# Altium schematic symbol library UAV.SchLib: 42 symbols (part 1 of 4)
Pins are listed as number, name and electrical type; pins without a type are passive.

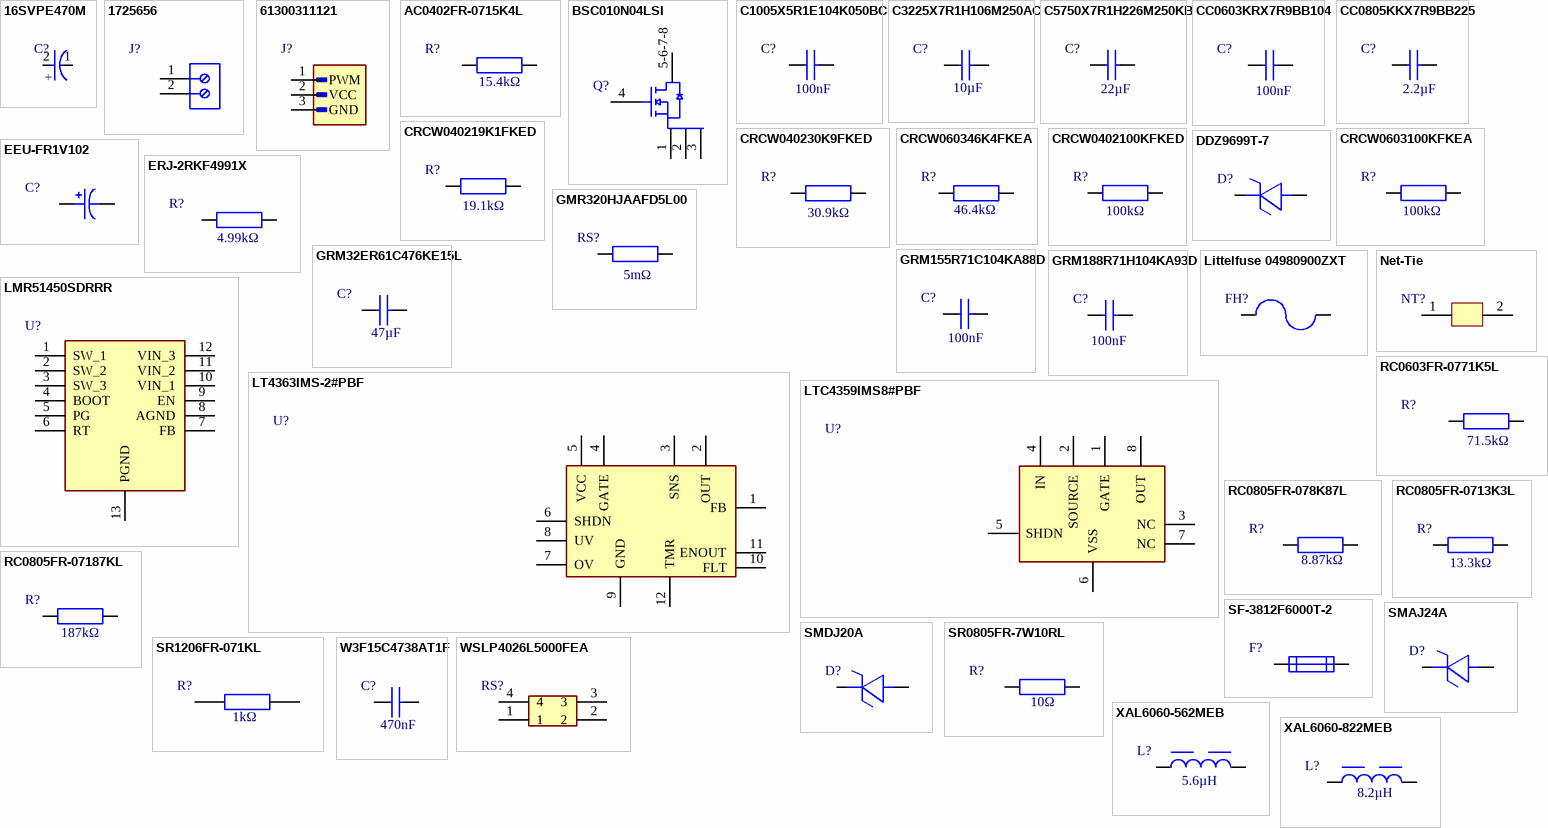
[diagram p0: symbols 16SVPE470M to XAL6060-822MEB]

## 16SVPE470M
designator C?  (value not drawn)
Cap Aluminum Polymer 470uF 16VDC 20%( 10 X 12.6mm) SMD 0.01 Ohm 6.1mA 2000h 105C T/R; Manufacturer: Panasonic; Manufacturer Lifecycle Status: ACTIVE; Part Series: SVPE; Value: 470µF; Dissipation Factor: 12%; ESR (Equivalent Series Resistance): 9mΩ; Leakage Current: 1.504mA; Life (Hours): 2000hours; Polarity: Polar; Ripple Current: 305mA; Ripple Current (AC): 6.1A; Voltage: 16V; Supplier: Farnell; Supplier Part Number: 16SVPE470M; Manufacturer Part Number: 16SVPE470M; RoHS: Compliant; Category: Aluminum Electrolytic Capacitors; Stock: 26; Pricing: 1=2,55, 10=2,01, 50=1,57, 100=1,47, 200=1,37 (EUR); Case/Package: Radial; Country of Origin: Japan; Diameter: 10mm; Export Control Classification Number (ECCN) Code: EAR99; Height: 12.6mm; Height - Seated (Max): 12.7mm; Harmonized Tariff Schedule (HTS) Code: 8532.22.00.20; Introduction Date: 2009-07-25; Lead Free: Lead Free; Length: 10.3mm; Lifecycle Status: Production; Material: Polymer; Max Operating Temperature: 105°C; Min Operating Temperature: -55°C; Mounting Technology: Surface Mount; Pins: 12; Number of Terminals: 2; Packaging: Cut Tape; Radiation Hardening: No; REACH SVHC: Yes; Schedule B: 8532220020, 8532220020|8532220020, 8532220020|8532220020|8532220020, 8532220020|8532220020|8532220020|8532220020; Termination: SMD/SMT; Tolerance: 20%; Voltage Rating: 16V; Voltage Rating (DC): 16V; Width: 10.3mm; ComponentLink1URL: https://datasheet.octopart.com:443/16SVPE470M-Panasonic-datasheet-182100644.pdf?src-supplier=IHS; ComponentLink1Description: https://datasheet.octopart.com:443/16SVPE470M-Panasonic-datasheet-182100644.pdf?src-supplier=IHS; ComponentLink2URL: https://datasheet.octopart.com:443/16SVPE470M-Sanyo-datasheet-182101939.pdf?src-supplier=IHS; ComponentLink2Description: https://datasheet.octopart.com:443/16SVPE470M-Sanyo-datasheet-182101939.pdf?src-supplier=IHS; ComponentLink3URL: https://datasheet.octopart.com:443/16SVPE470M-Panasonic-datasheet-62065353.pdf?src-supplier=element14+APAC; ComponentLink3Description: https://datasheet.octopart.com:443/16SVPE470M-Panasonic-datasheet-62065353.pdf?src-supplier=element14+APAC; ComponentLink4URL: https://sigma.octopart.com:443/138897373/technical_drawing/Panasonic-16SVPE470M.pdf?src-supplier=Upverter; ComponentLink4Description: https://sigma.octopart.com:443/138897373/technical_drawing/Panasonic-16SVPE470M.pdf?src-supplier=Upverter; ComponentLink5URL: https://datasheet.octopart.com:443/16SVPE470M-Panasonic-datasheet-138704361.pdf?src-supplier=Master+Electronics; ComponentLink5Description: https://datasheet.octopart.com:443/16SVPE470M-Panasonic-datasheet-138704361.pdf?src-supplier=Master+Electronics; ComponentLink6URL: https://datasheet.octopart.com:443/16SVPE470M-Panasonic-datasheet-17932125.pdf?src-supplier=Newark; ComponentLink6Description: https://datasheet.octopart.com:443/16SVPE470M-Panasonic-datasheet-17932125.pdf?src-supplier=Newark; ComponentLink7URL: https://datasheet.octopart.com:443/16SVPE470M-Panasonic-datasheet-41466106.pdf?src-supplier=Future+Electronics; ComponentLink7Description: https://datasheet.octopart.com:443/16SVPE470M-Panasonic-datasheet-41466106.pdf?src-supplier=Future+Electronics; ComponentLink8URL: https://sigma.octopart.com:443/150570690/technical_drawing/Panasonic-16SVPE470M.pdf?src-supplier=Panasonic+SCT; ComponentLink8Description: https://sigma.octopart.com:443/150570690/technical_drawing/Panasonic-16SVPE470M.pdf?src-supplier=Panasonic+SCT; ComponentLink9URL: https://datasheet.octopart.com:443/16SVPE470M-Panasonic-datasheet-17853225.pdf?src-supplier=Farnell; ComponentLink9Description: https://datasheet.octopart.com:443/16SVPE470M-Panasonic-datasheet-17853225.pdf?src-supplier=Farnell; ComponentLink10URL: https://datasheet.octopart.com:443/16SVPE470M-Panasonic-datasheet-23711705.pdf?src-supplier=Electro+Sonic; ComponentLink10Description: https://datasheet.octopart.com:443/16SVPE470M-Panasonic-datasheet-23711705.pdf?src-supplier=Electro+Sonic
footprint 16SVPE470M
pins: 1 C, 2 A
text: +

## 1725656
designator J?  (value not drawn)
Block, Terminal; 6 A; 63 V; 2.54 mm; 26 to 20 AWG; 2; Screw; Soldering; 1.5 kV; Manufacturer: Phoenix Contact; Approvals: CSA, UL, VDE, cUL; Connector Type: PCB, Screw, Terminal Block; Current: 6A; Max Supply Voltage: 63V; Number of Circuits: 2; Number of Levels: 1; Pitch: 2.54mm; Stripping Length: 4.5mm; Voltage: 125V; Voltage Rating: 160V; Wire/Cable Gauge: 20AWG; Wire Gauge (Max): 26AWG; Supplier: Arrow Electronics; Supplier Part Number: 1725656; Manufacturer Part Number: 1725656; RoHS: Compliant; Category: Terminal Blocks; Stock: 13040; Pricing: 1=1,249, 251=1,214 (USD); China RoHS: Compliant; Color: Green; Contact Material: Tin; Current Rating: 6A; Depth: 6.2mm; Flammability Rating: UL94 V-0; Height: 6.2mm; Housing Color: Green; Insulation Material: Nylon; Lead Free: Lead Free; Lead Pitch: 2.54mm; Lifecycle Status: Production; Max Current Rating: 6A; Mounting Technology: Screw; Number of Contacts: 2; Pins: 2; Number of Poles: 2; Number of Positions: 2; Number of Positions Per Level: 2; Number of Rows: 1; Radiation Hardening: No; REACH SVHC: Yes; Termination: Solder; Voltage Rating (AC): 63V; Weight: 639.990485mg; Width: 12mm; Wire Gauge (Min): 20AWG; ComponentLink1URL: https://datasheet.octopart.com:443/1725656-Phoenix-Contact-datasheet-141439143.pdf?src-supplier=Upverter; ComponentLink1Description: https://datasheet.octopart.com:443/1725656-Phoenix-Contact-datasheet-141439143.pdf?src-supplier=Upverter; ComponentLink2URL: https://datasheet.octopart.com:443/1725656-Phoenix-Contact-datasheet-101586919.pdf?src-supplier=element14+APAC; ComponentLink2Description: https://datasheet.octopart.com:443/1725656-Phoenix-Contact-datasheet-101586919.pdf?src-supplier=element14+APAC; ComponentLink3URL: https://datasheet.octopart.com:443/1725656-Phoenix-Contact-datasheet-5302866.pdf?src-supplier=element14+APAC; ComponentLink3Description: https://datasheet.octopart.com:443/1725656-Phoenix-Contact-datasheet-5302866.pdf?src-supplier=element14+APAC; ComponentLink4URL: https://datasheet.octopart.com:443/1725656-Phoenix-Contact-datasheet-66629008.pdf?src-supplier=element14+APAC; ComponentLink4Description: https://datasheet.octopart.com:443/1725656-Phoenix-Contact-datasheet-66629008.pdf?src-supplier=element14+APAC; ComponentLink5URL: https://datasheet.octopart.com:443/1725656-Phoenix-Contact-datasheet-170281659.pdf?src-supplier=Master+Electronics; ComponentLink5Description: https://datasheet.octopart.com:443/1725656-Phoenix-Contact-datasheet-170281659.pdf?src-supplier=Master+Electronics; ComponentLink6URL: https://datasheet.octopart.com:443/1725656-Phoenix-Contact-datasheet-154778688.pdf?src-supplier=Electro+Sonic; ComponentLink6Description: https://datasheet.octopart.com:443/1725656-Phoenix-Contact-datasheet-154778688.pdf?src-supplier=Electro+Sonic; ComponentLink7URL: https://datasheet.octopart.com:443/1725656-Phoenix-Contact-datasheet-525036.pdf?src-supplier=Newark; ComponentLink7Description: https://datasheet.octopart.com:443/1725656-Phoenix-Contact-datasheet-525036.pdf?src-supplier=Newark; ComponentLink8URL: https://datasheet.octopart.com:443/1725656-Phoenix-Contact-datasheet-169855803.pdf?src-supplier=Amar+Radio+Corporation; ComponentLink8Description: https://datasheet.octopart.com:443/1725656-Phoenix-Contact-datasheet-169855803.pdf?src-supplier=Amar+Radio+Corporation; ComponentLink9URL: https://datasheet.octopart.com:443/1725656-Phoenix-Contact-datasheet-164874127.pdf?src-supplier=Burklin+Elektronik; ComponentLink9Description: https://datasheet.octopart.com:443/1725656-Phoenix-Contact-datasheet-164874127.pdf?src-supplier=Burklin+Elektronik; ComponentLink10URL: https://datasheet.octopart.com:443/1725656-Phoenix-Contact-datasheet-62053918.pdf?src-supplier=TME; ComponentLink10Description: https://datasheet.octopart.com:443/1725656-Phoenix-Contact-datasheet-62053918.pdf?src-supplier=TME; ComponentLink11URL: https://datasheet.octopart.com:443/1725656-Phoenix-Contact-datasheet-11891466.pdf?src-supplier=Arrow+Electronics; ComponentLink11Description: https://datasheet.octopart.com:443/1725656-Phoenix-Contact-datasheet-11891466.pdf?src-supplier=Arrow+Electronics; ComponentLink12URL: https://datasheet.octopart.com:443/1725656-Phoenix-Contact-datasheet-33456951.pdf?src-supplier=MRO+Stop; ComponentLink12Description: https://datasheet.octopart.com:443/1725656-Phoenix-Contact-datasheet-33456951.pdf?src-supplier=MRO+Stop; ComponentLink13URL: https://datasheet.octopart.com:443/1725656-Phoenix-Contact-datasheet-62122436.pdf?src-supplier=RS+(Formerly+Allied+Electronics); ComponentLink13Description: https://datasheet.octopart.com:443/1725656-Phoenix-Contact-datasheet-62122436.pdf?src-supplier=RS+(Formerly+Allied+Electronics); ComponentLink14URL: https://datasheet.octopart.com:443/1725656-Phoenix-Contact-datasheet-9781713.pdf?src-supplier=RS+(Formerly+Allied+Electronics); ComponentLink14Description: https://datasheet.octopart.com:443/1725656-Phoenix-Contact-datasheet-9781713.pdf?src-supplier=RS+(Formerly+Allied+Electronics); ComponentLink15URL: https://datasheet.octopart.com:443/1725656-Phoenix-Contact-datasheet-84491.pdf?src-supplier=RS+(Formerly+Allied+Electronics); ComponentLink15Description: https://datasheet.octopart.com:443/1725656-Phoenix-Contact-datasheet-84491.pdf?src-supplier=RS+(Formerly+Allied+Electronics); ComponentLink16URL: https://datasheet.octopart.com:443/1725656-Phoenix-Contact-datasheet-657280.pdf?src-supplier=Farnell; ComponentLink16Description: https://datasheet.octopart.com:443/1725656-Phoenix-Contact-datasheet-657280.pdf?src-supplier=Farnell; ComponentLink17URL: https://datasheet.octopart.com:443/1725656-Phoenix-Contact-datasheet-97278.pdf?src-supplier=DigiKey; ComponentLink17Description: https://datasheet.octopart.com:443/1725656-Phoenix-Contact-datasheet-97278.pdf?src-supplier=DigiKey
footprint 1725656
pins: 1 VCC, 2 GND

## 61300311121
designator J?  (value not drawn)
WR-PHD Straight Male, PCB Header, Through Hole, 1 Rows, 3 Contacts, 2.54mm Pitch; Manufacturer: Wurth Elektronik; Manufacturer Lifecycle Status: ACTIVE; Connector Type: Male Pin; Contact Resistance: 20mΩ; Current Rating: 3A; Insulation Resistance: 1GΩ; Number of Contacts: 3; Operating Supply Voltage: 250V; YEOL: 1 = Estimated lifetime > 10 years; Supplier: Farnell; Supplier Part Number: 61300311121; Manufacturer Part Number: 61300311121; RoHS: Compliant; Category: Headers and Wire Housings; Stock: 49425; Pricing: 100=0,0751, 500=0,0705, 1000=0,0659, 2500=0,0646 (EUR); Color: Black; Contact Material: Gold; Contact Mating Length: 5.9944mm; Contact Plating: Gold; Gender: Male; Height: 8.94mm; Lead Free: Lead Free; Lead Pitch: 2.54mm; Length: 7.62mm; Lifecycle Status: Production; Max Operating Temperature: 105°C; Min Operating Temperature: -40°C; Mounting Technology: Through Hole; Pins: 3; Number of Positions: 3; Number of Rows: 1; Orientation: Vertical; Packaging: Bulk; Pitch: 2.54mm; Termination: Solder; Voltage Rating: 250V; ComponentLink1URL: https://datasheet.octopart.com:443/61300311121-Wurth-Elektronik-datasheet-168684096.pdf?src-supplier=Wurth+Elektronik; ComponentLink1Description: https://datasheet.octopart.com:443/61300311121-Wurth-Elektronik-datasheet-168684096.pdf?src-supplier=Wurth+Elektronik; ComponentLink2URL: https://datasheet.octopart.com:443/61300311121-W%C3%BCrth-Elektronik-datasheet-44382959.pdf?src-supplier=Future+Electronics; ComponentLink2Description: https://datasheet.octopart.com:443/61300311121-W%C3%BCrth-Elektronik-datasheet-44382959.pdf?src-supplier=Future+Electronics; ComponentLink3URL: https://datasheet.octopart.com:443/61300311121-W%C3%BCrth-Elektronik-datasheet-149524047.pdf?src-supplier=Farnell; ComponentLink3Description: https://datasheet.octopart.com:443/61300311121-W%C3%BCrth-Elektronik-datasheet-149524047.pdf?src-supplier=Farnell; ComponentLink4URL: https://datasheet.octopart.com:443/61300311121-W%C3%BCrth-Elektronik-datasheet-21154836.pdf?src-supplier=element14+APAC; ComponentLink4Description: https://datasheet.octopart.com:443/61300311121-W%C3%BCrth-Elektronik-datasheet-21154836.pdf?src-supplier=element14+APAC; ComponentLink5URL: https://datasheet.octopart.com/613-003-111-21-W%C3%BCrth-Elektronik-datasheet-134615323.pdf; ComponentLink5Description: https://datasheet.octopart.com/613-003-111-21-W%C3%BCrth-Elektronik-datasheet-134615323.pdf
footprint 1X3 MALE HEADER
pins: 1 PWM, 2 VCC, 3 GND

## AC0402FR-0715K4L
designator R?  value 15.4kΩ  (hidden comment: AC0402FR-0715K4L)
Res Thick Film 0402 15.4K Ohm 1% 0.063W(1/16W) ±100ppm/C Pad SMD Automotive T/R; Manufacturer: Yageo Group; Max Power Dissipation: 63mW; Power Rating: 62.5mW; Temperature Coefficient: 100ppm/°C; Voltage Rating: 50V; Supplier: Farnell; Supplier Part Number: AC0402FR-0715K4L.; Manufacturer Part Number: AC0402FR-0715K4L; RoHS: Compliant; Category: Chip SMD Resistors; Stock: 19685; Pricing: 1=0,0038 (EUR); Case/Package: 0402; Case Code (Imperial): 0402; Case Code (Metric): 1005; China RoHS: Non-Compliant; Composition: Thick Film; Features: Automotive AEC-Q200, Moisture Resistant; Height: 320µm; Length: 1mm; Lifecycle Status: Production; Max Operating Temperature: 155°C; Min Operating Temperature: -55°C; Mounting Technology: Surface Mount; Number of Terminals: 2; Number of Terminations: 2; Packaging: Tape & Reel; Ratings: AEC-Q200; REACH SVHC: Yes; Schedule B: 8533210045, 8533210045|8533210045|8533210045|8533210045|8533210045; Termination: SMD/SMT; Tolerance: 1%; Width: 500µm; Working Voltage: 50V; ComponentLink1URL: https://datasheet.octopart.com:443/AC0402FR-0715K4L-Yageo-datasheet-182189377.pdf?src-supplier=IHS; ComponentLink1Description: https://datasheet.octopart.com:443/AC0402FR-0715K4L-Yageo-datasheet-182189377.pdf?src-supplier=IHS; ComponentLink2URL: https://datasheet.octopart.com:443/AC0402FR-0715K4L-Yageo-datasheet-83209224.pdf?src-supplier=Upverter; ComponentLink2Description: https://datasheet.octopart.com:443/AC0402FR-0715K4L-Yageo-datasheet-83209224.pdf?src-supplier=Upverter; ComponentLink3URL: https://datasheet.octopart.com:443/AC0402FR-0715K4L-Yageo-datasheet-178509465.pdf?src-supplier=element14+APAC; ComponentLink3Description: https://datasheet.octopart.com:443/AC0402FR-0715K4L-Yageo-datasheet-178509465.pdf?src-supplier=element14+APAC; ComponentLink4URL: https://datasheet.octopart.com:443/AC0402FR-0715K4L-Yageo-Group-datasheet-189830439.pdf?src-supplier=Future+Electronics; ComponentLink4Description: https://datasheet.octopart.com:443/AC0402FR-0715K4L-Yageo-Group-datasheet-189830439.pdf?src-supplier=Future+Electronics; ComponentLink5URL: https://datasheet.octopart.com:443/AC0402FR-0715K4L-Yageo-datasheet-166720450.pdf?src-supplier=Future+Electronics; ComponentLink5Description: https://datasheet.octopart.com:443/AC0402FR-0715K4L-Yageo-datasheet-166720450.pdf?src-supplier=Future+Electronics; ComponentLink6URL: https://datasheet.octopart.com:443/AC0402FR-0715K4L-Yageo-datasheet-151884373.pdf?src-supplier=Future+Electronics; ComponentLink6Description: https://datasheet.octopart.com:443/AC0402FR-0715K4L-Yageo-datasheet-151884373.pdf?src-supplier=Future+Electronics; ComponentLink7URL: https://datasheet.octopart.com:443/AC0402FR-0715K4L-Yageo-datasheet-137699919.pdf?src-supplier=Future+Electronics; ComponentLink7Description: https://datasheet.octopart.com:443/AC0402FR-0715K4L-Yageo-datasheet-137699919.pdf?src-supplier=Future+Electronics; ComponentLink8URL: https://datasheet.octopart.com:443/AC0402FR-0715K4L-Yageo-Group-datasheet-164768995.pdf?src-supplier=ODG+(Origin+Data+Global); ComponentLink8Description: https://datasheet.octopart.com:443/AC0402FR-0715K4L-Yageo-Group-datasheet-164768995.pdf?src-supplier=ODG+(Origin+Data+Global); ComponentLink9URL: https://datasheet.octopart.com/AC0402FR-0715K4L-Yageo-datasheet-12512238.pdf; ComponentLink9Description: https://datasheet.octopart.com/AC0402FR-0715K4L-Yageo-datasheet-12512238.pdf; ComponentLink10URL: http://sigma.octopart.com:80/conflict_mineral_statement/Yageo-company-3.pdf?src-supplier=Compliance+Statements; ComponentLink10Description: http://sigma.octopart.com:80/conflict_mineral_statement/Yageo-company-3.pdf?src-supplier=Compliance+Statements; ComponentLink11URL: http://sigma.octopart.com:80/rohs_statement/Yageo-company-2.pdf?src-supplier=Compliance+Statements; ComponentLink11Description: http://sigma.octopart.com:80/rohs_statement/Yageo-company-2.pdf?src-supplier=Compliance+Statements
footprint RES 0402
pins: 1, 2

## BSC010N04LSI
designator Q?  (value not drawn)
Transistor: N-MOSFET; unipolar; 40V; 100A; 139W; PG-TDSON-8; Manufacturer: Infineon; Manufacturer Part Number: BSC010N04LSIATMA1; Continuous Drain Current (ID): 37A; Drain to Source Resistance: 1.4mΩ; Fall Time: 17ns; Gate to Source Voltage (Vgs): 20V; Input Capacitance: 6.2nF; Max Junction Temperature (Tj): 150°C; Number of Channels: 1; On-State Resistance: 1.05mΩ; Power Dissipation: 2.5W; Rise Time: 48ns; Turn-Off Delay Time: 33ns; Turn-On Delay Time: 9ns; Supplier: Farnell; Supplier Part Number: BSC010N04LSIATMA1; RoHS: Compliant; Category: MOSFETs; Stock: 10731; Pricing: 5=3,14, 50=2,04, 250=1,46, 1000=1,02, 3000=1 (EUR); China RoHS: Non-Compliant; Country of Origin: Germany, Mainland China; Drain to Source Breakdown Voltage: 40V; Drain to Source Voltage (Vdss): 40V; Export Control Classification Number (ECCN) Code: EAR99; Halogen Free: Halogen Free; Height: 1.1mm; Introduction Date: 2012-02-06; Lead Free: Contains Lead; Lifecycle Status: Production; Max Dual Supply Voltage: 40V; Max Operating Temperature: 150°C; Max Power Dissipation: 139W; Min Breakdown Voltage: 40V; Min Operating Temperature: -55°C; Mounting Technology: Surface Mount; Number of Elements: 1; Pins: 8; Number of Terminals: 8; Package Quantity: 5000; Packaging: Tape & Reel; Rds On Max: 1.05mΩ; REACH SVHC: No; Schedule B: 8541290080, 8541290080|8541290080|8541290080|8541290080|8541290080|8541290080|8541290080|8541290080|8541290080|8541290080|8541290080|8541290080|8541290080|8541290080|8541290080|8541290080|8541290080|8541290080|8541290080|8541290080|8541290080|8541290080|8541290080|85; ComponentLink1URL: https://datasheet.octopart.com:443/BSC010N04LSIATMA1-Infineon-datasheet-82520598.pdf?src-supplier=ODG+(Origin+Data+Global); ComponentLink1Description: https://datasheet.octopart.com:443/BSC010N04LSIATMA1-Infineon-datasheet-82520598.pdf?src-supplier=ODG+(Origin+Data+Global); ComponentLink2URL: https://datasheet.octopart.com:443/BSC010N04LSIATMA1-Infineon-datasheet-62293607.pdf?src-supplier=TME; ComponentLink2Description: https://datasheet.octopart.com:443/BSC010N04LSIATMA1-Infineon-datasheet-62293607.pdf?src-supplier=TME; ComponentLink3URL: http://sigma.octopart.com:80/conflict_mineral_statement/Infineon-company-51.pdf?src-supplier=Compliance+Statements; ComponentLink3Description: http://sigma.octopart.com:80/conflict_mineral_statement/Infineon-company-51.pdf?src-supplier=Compliance+Statements
footprint SON 5X6
pins: 1 S, 2 S, 3 S, 4 G, 5-6-7-8 D

## C1005X5R1E104K050BC
designator C?  value 100nF  (hidden comment: C1005X5R1E104K050BC)
25V 100nF X5R 卤10% 0402 Multilayer Ceramic Capacitors MLCC - SMD/SMT ROHS; Manufacturer: TDK; Manufacturer Lifecycle Status: PRODUCTION; Tolerance: 10%; Supplier: Farnell; Supplier Part Number: C1005X5R1E104K050BC; Manufacturer Part Number: C1005X5R1E104K050BC; RoHS: Compliant; Category: Ceramic Capacitors; Stock: 11641; Pricing: 10=0,0312, 100=0,0274, 500=0,0199, 2500=0,0152, 5000=0,0142 (EUR); Case/Package: 0402; Case Code (Imperial): 0402; Case Code (Metric): 1005; China RoHS: Compliant; Composition: Ceramic; Contact Plating: Tin; Depth: 500µm; Dielectric: X5R; Dielectric Material: Ceramic; Export Control Classification Number (ECCN) Code: EAR99; Height: 500µm; Harmonized Tariff Schedule (HTS) Code: 8532.24.00.20; Introduction Date: 2012-12-22; Lead Free: Lead Free; Length: 1mm; Lifecycle Status: Production; Material: Ceramic; Max Length: 1.05mm; Max Operating Temperature: 85°C; Max Width: 550µm; Min Length: 950µm; Min Operating Temperature: -55°C; Min Width: 450µm; Mounting Technology: Surface Mount; Pins: 2; Number of Terminals: 2; Packaging: Cut Tape (CT); REACH SVHC: Yes; Schedule B: 8532240020, 8532240020|8532240020, 8532240020|8532240020|8532240020, 8532240020|8532240020|8532240020|8532240020; Termination: SMD/SMT; Voltage: 25V; Voltage Rating: 25V; Voltage Rating (DC): 25V; Weight: 652.039032µg; Width: 500µm; ComponentLink1URL: https://datasheet.octopart.com:443/C1005X5R1E104K050BC-TDK-datasheet-175423548.pdf?src-supplier=TME; ComponentLink1Description: https://datasheet.octopart.com:443/C1005X5R1E104K050BC-TDK-datasheet-175423548.pdf?src-supplier=TME; ComponentLink2URL: https://datasheet.octopart.com:443/C1005X5R1E104K050BC-TDK-datasheet-182135025.pdf?src-supplier=TME; ComponentLink2Description: https://datasheet.octopart.com:443/C1005X5R1E104K050BC-TDK-datasheet-182135025.pdf?src-supplier=TME; ComponentLink3URL: https://datasheet.octopart.com:443/C1005X5R1E104K050BC-TDK-datasheet-159617022.pdf?src-supplier=TME; ComponentLink3Description: https://datasheet.octopart.com:443/C1005X5R1E104K050BC-TDK-datasheet-159617022.pdf?src-supplier=TME; ComponentLink4URL: https://datasheet.octopart.com/C1005X5R1E104K050BC-TDK-datasheet-41194876.pdf; ComponentLink4Description: https://datasheet.octopart.com/C1005X5R1E104K050BC-TDK-datasheet-41194876.pdf; ComponentLink5URL: https://datasheet.octopart.com/C1005X5R1E104K-TDK-datasheet-11513774.pdf; ComponentLink5Description: https://datasheet.octopart.com/C1005X5R1E104K-TDK-datasheet-11513774.pdf; ComponentLink6URL: https://datasheet.octopart.com:443/C1005X5R1E104K050BC-TDK-datasheet-14433597.pdf?src-supplier=Upverter; ComponentLink6Description: https://datasheet.octopart.com:443/C1005X5R1E104K050BC-TDK-datasheet-14433597.pdf?src-supplier=Upverter; ComponentLink7URL: https://datasheet.octopart.com:443/C1005X5R1E104K050BC-TDK-datasheet-151546523.pdf?src-supplier=ODG+(Origin+Data+Global); ComponentLink7Description: https://datasheet.octopart.com:443/C1005X5R1E104K050BC-TDK-datasheet-151546523.pdf?src-supplier=ODG+(Origin+Data+Global); ComponentLink8URL: https://datasheet.octopart.com:443/C1005X5R1E104K050BC-TDK-datasheet-82475248.pdf?src-supplier=Newark; ComponentLink8Description: https://datasheet.octopart.com:443/C1005X5R1E104K050BC-TDK-datasheet-82475248.pdf?src-supplier=Newark; ComponentLink9URL: https://datasheet.octopart.com:443/C1005X5R1E104K050BC-TDK-datasheet-20681607.pdf?src-supplier=Newark; ComponentLink9Description: https://datasheet.octopart.com:443/C1005X5R1E104K050BC-TDK-datasheet-20681607.pdf?src-supplier=Newark; ComponentLink10URL: https://datasheet.octopart.com:443/C1005X5R1E104K050BC-TDK-datasheet-13376850.pdf?src-supplier=Newark; ComponentLink10Description: https://datasheet.octopart.com:443/C1005X5R1E104K050BC-TDK-datasheet-13376850.pdf?src-supplier=Newark; ComponentLink11URL: https://datasheet.octopart.com:443/C1005X5R1E104K050BC-TDK-datasheet-10978788.pdf?src-supplier=Newark; ComponentLink11Description: https://datasheet.octopart.com:443/C1005X5R1E104K050BC-TDK-datasheet-10978788.pdf?src-supplier=Newark; ComponentLink12URL: https://datasheet.octopart.com:443/C1005X5R1E104K-TDK-datasheet-8852320.pdf?src-supplier=element14+APAC; ComponentLink12Description: https://datasheet.octopart.com:443/C1005X5R1E104K-TDK-datasheet-8852320.pdf?src-supplier=element14+APAC; ComponentLink13URL: https://datasheet.octopart.com:443/C1005X5R1E104K050BC-TDK-datasheet-15994800.pdf?src-supplier=Farnell; ComponentLink13Description: https://datasheet.octopart.com:443/C1005X5R1E104K050BC-TDK-datasheet-15994800.pdf?src-supplier=Farnell; ComponentLink14URL: https://datasheet.octopart.com:443/C1005X5R1E104K-TDK-datasheet-13147362.pdf?src-supplier=Future+Electronics; ComponentLink14Description: https://datasheet.octopart.com:443/C1005X5R1E104K-TDK-datasheet-13147362.pdf?src-supplier=Future+Electronics; ComponentLink15URL: https://datasheet.octopart.com:443/C1005X5R1E104K050BC-TDK-datasheet-10921857.pdf?src-supplier=Future+Electronics; ComponentLink15Description: https://datasheet.octopart.com:443/C1005X5R1E104K050BC-TDK-datasheet-10921857.pdf?src-supplier=Future+Electronics; ComponentLink16URL: https://datasheet.octopart.com:443/C1005X5R1E104K-TDK-datasheet-12509848.pdf?src-supplier=element14; ComponentLink16Description: https://datasheet.octopart.com:443/C1005X5R1E104K-TDK-datasheet-12509848.pdf?src-supplier=element14; ComponentLink17URL: https://datasheet.octopart.com:443/C1005X5R1E104K-TDK-datasheet-8359770.pdf?src-supplier=element14; ComponentLink17Description: https://datasheet.octopart.com:443/C1005X5R1E104K-TDK-datasheet-8359770.pdf?src-supplier=element14; ComponentLink18URL: https://datasheet.octopart.com:443/C1005X5R1E104K-TDK-datasheet-8324322.pdf?src-supplier=element14; ComponentLink18Description: https://datasheet.octopart.com:443/C1005X5R1E104K-TDK-datasheet-8324322.pdf?src-supplier=element14; ComponentLink19URL: https://datasheet.octopart.com:443/C1005X5R1E104K-TDK-datasheet-128946.pdf?src-supplier=element14; ComponentLink19Description: https://datasheet.octopart.com:443/C1005X5R1E104K-TDK-datasheet-128946.pdf?src-supplier=element14; ComponentLink20URL: https://datasheet.octopart.com:443/C1005X5R1E104K-TDK-datasheet-11777493.pdf?src-supplier=Arrow+Electronics; ComponentLink20Description: https://datasheet.octopart.com:443/C1005X5R1E104K-TDK-datasheet-11777493.pdf?src-supplier=Arrow+Electronics; ComponentLink21URL: https://datasheet.octopart.com:443/C1005X5R1E104K050BC-TDK-datasheet-44412857.pdf?src-supplier=Electro+Sonic; ComponentLink21Description: https://datasheet.octopart.com:443/C1005X5R1E104K050BC-TDK-datasheet-44412857.pdf?src-supplier=Electro+Sonic; ComponentLink22URL: http://sigma.octopart.com:80/rohs_statement/C-Series-Ceramic-Chip-Capacitors-%28Old-Numbering%29-TDK-family-131.pdf?src-supplier=Compliance+Statements; ComponentLink22Description: http://sigma.octopart.com:80/rohs_statement/C-Series-Ceramic-Chip-Capacitors-%28Old-Numbering%29-TDK-family-131.pdf?src-supplier=Compliance+Statements
footprint CAP 0402
pins: 1, 2

## C3225X7R1H106M250AC
designator C?  value 10µF  (hidden comment: C3225X7R1H106M250AC)
50V 10uF X7R 卤20% 1210 Multilayer Ceramic Capacitors MLCC - SMD/SMT ROHS; Manufacturer: TDK; Manufacturer Lifecycle Status: PRODUCTION (NOT RECOMMENDED FOR NEW DESIGN); Manufacturer Package Identifier: 1210 (3225 Metric); Tolerance: 20%; Supplier: Arrow Electronics; Supplier Part Number: C3225X7R1H106M250AC; Manufacturer Part Number: C3225X7R1H106M250AC; RoHS: Compliant; Category: Ceramic Capacitors; Stock: 2290; Pricing: 1=0,9803, 10=0,4861, 100=0,4422, 500=0,3574, 1000=0,338, 2000=0,3166 (USD); Case/Package: 1210; Case Code (Imperial): 1210; Case Code (Metric): 3225; China RoHS: Compliant; Country of Origin: Japan; Dielectric: X7R; Dielectric Material: Ceramic; Export Control Classification Number (ECCN) Code: EAR99; Height: 2.5mm; Harmonized Tariff Schedule (HTS) Code: 8532.24.00.20; Introduction Date: 2013-02-27; Lead Free: Lead Free; Length: 3.2mm; Lifecycle Status: NRND; Material: Ceramic; Max Length: 3.6mm; Max Operating Temperature: 125°C; Max Width: 2.8mm; Min Length: 2.8mm; Min Operating Temperature: -55°C; Min Width: 2.2mm; Mounting Technology: Surface Mount; Number of Terminals: 2; REACH SVHC: Yes; Schedule B: 8532240020, 8532240020|8532240020|8532240020|8532240020|8532240020; Termination: SMD/SMT; Voltage Rating: 50V; Voltage Rating (DC): 50V; Weight: 15.989131mg; Width: 2.5mm; ComponentLink1URL: https://datasheet.octopart.com:443/C3225X7R1H106M250AC-TDK-datasheet-175423548.pdf?src-supplier=IHS; ComponentLink1Description: https://datasheet.octopart.com:443/C3225X7R1H106M250AC-TDK-datasheet-175423548.pdf?src-supplier=IHS; ComponentLink2URL: https://sigma.octopart.com:443/138898468/technical_drawing/TDK-C3225X7R1H106M250AC.pdf?src-supplier=Upverter; ComponentLink2Description: https://sigma.octopart.com:443/138898468/technical_drawing/TDK-C3225X7R1H106M250AC.pdf?src-supplier=Upverter; ComponentLink3URL: https://datasheet.octopart.com:443/C3225X7R1H106M250AC-TDK-datasheet-151546523.pdf?src-supplier=TDK; ComponentLink3Description: https://datasheet.octopart.com:443/C3225X7R1H106M250AC-TDK-datasheet-151546523.pdf?src-supplier=TDK; ComponentLink4URL: https://datasheet.octopart.com/C3225X7R1H106M250AC-TDK-datasheet-41194876.pdf; ComponentLink4Description: https://datasheet.octopart.com/C3225X7R1H106M250AC-TDK-datasheet-41194876.pdf; ComponentLink5URL: https://datasheet.octopart.com/C-Series-Ceramic-Chip-Capacitors-TDK-datasheet-family-84.pdf; ComponentLink5Description: https://datasheet.octopart.com/C-Series-Ceramic-Chip-Capacitors-TDK-datasheet-family-84.pdf; ComponentLink6URL: https://datasheet.octopart.com:443/C3225X7R1H106M250AC-TDK-datasheet-82475248.pdf?src-supplier=Newark; ComponentLink6Description: https://datasheet.octopart.com:443/C3225X7R1H106M250AC-TDK-datasheet-82475248.pdf?src-supplier=Newark; ComponentLink7URL: https://datasheet.octopart.com:443/C3225X7R1H106M250AC-TDK-datasheet-14433597.pdf?src-supplier=Future+Electronics; ComponentLink7Description: https://datasheet.octopart.com:443/C3225X7R1H106M250AC-TDK-datasheet-14433597.pdf?src-supplier=Future+Electronics; ComponentLink8URL: http://sigma.octopart.com:80/rohs_certificate/C-Series-Ceramic-Chip-Capacitors-TDK-family-108.pdf?src-supplier=Compliance+Statements; ComponentLink8Description: http://sigma.octopart.com:80/rohs_certificate/C-Series-Ceramic-Chip-Capacitors-TDK-family-108.pdf?src-supplier=Compliance+Statements
footprint CAP 1210
pins: 1, 2

## C5750X7R1H226M250KB
designator C?  value 22µF  (hidden comment: C5750X7R1H226M250KB)
50V 22uF X7R 卤20% 2220 Multilayer Ceramic Capacitors MLCC - SMD/SMT ROHS; Manufacturer: TDK; Manufacturer Lifecycle Status: PRODUCTION; Tolerance: 20%; Supplier: Farnell; Supplier Part Number: C5750X7R1H226M250KB; Manufacturer Part Number: C5750X7R1H226M250KB; RoHS: Compliant; Category: Ceramic Capacitors; Stock: 4; Pricing: 1=3,8, 10=2,29, 50=2,23, 100=2,16, 200=2,06, 500=1,96 (EUR); Case/Package: 2220; Case Code (Metric): 5750; China RoHS: Compliant; Dielectric: X7R; Dielectric Material: Ceramic; Export Control Classification Number (ECCN) Code: EAR99; Height: 2.5mm; Harmonized Tariff Schedule (HTS) Code: 8532.24.00.20; Introduction Date: 2019-03-19; Lead Free: Lead Free; Length: 5.7mm; Lifecycle Status: Production; Material: Ceramic; Max Length: 6.1mm; Max Operating Temperature: 125°C; Max Width: 5.4mm; Min Length: 5.3mm; Min Operating Temperature: -55°C; Min Width: 4.6mm; Mounting Technology: Surface Mount; Number of Terminals: 2; REACH SVHC: Yes; Thickness: 2.5mm; Voltage Rating: 50V; Voltage Rating (DC): 50V; Width: 5mm; ComponentLink1URL: https://datasheet.octopart.com:443/C5750X7R1H226M250KB-TDK-datasheet-175423548.pdf?src-supplier=TME; ComponentLink1Description: https://datasheet.octopart.com:443/C5750X7R1H226M250KB-TDK-datasheet-175423548.pdf?src-supplier=TME; ComponentLink2URL: https://datasheet.octopart.com:443/C5750X7R1H226M250KB-TDK-datasheet-68298673.pdf?src-supplier=Upverter; ComponentLink2Description: https://datasheet.octopart.com:443/C5750X7R1H226M250KB-TDK-datasheet-68298673.pdf?src-supplier=Upverter; ComponentLink3URL: https://datasheet.octopart.com:443/C5750X7R1H226M250KB-TDK-datasheet-151546523.pdf?src-supplier=ODG+(Origin+Data+Global); ComponentLink3Description: https://datasheet.octopart.com:443/C5750X7R1H226M250KB-TDK-datasheet-151546523.pdf?src-supplier=ODG+(Origin+Data+Global); ComponentLink4URL: https://datasheet.octopart.com:443/C5750X7R1H226M250KB-TDK-datasheet-154546117.pdf?src-supplier=Farnell; ComponentLink4Description: https://datasheet.octopart.com:443/C5750X7R1H226M250KB-TDK-datasheet-154546117.pdf?src-supplier=Farnell; ComponentLink5URL: https://datasheet.octopart.com/C5750X7R1H226M250KB-TDK-datasheet-41194876.pdf; ComponentLink5Description: https://datasheet.octopart.com/C5750X7R1H226M250KB-TDK-datasheet-41194876.pdf; ComponentLink6URL: https://datasheet.octopart.com/C-Series-Ceramic-Chip-Capacitors-TDK-datasheet-family-84.pdf; ComponentLink6Description: https://datasheet.octopart.com/C-Series-Ceramic-Chip-Capacitors-TDK-datasheet-family-84.pdf; ComponentLink7URL: http://sigma.octopart.com:80/rohs_certificate/C-Series-Ceramic-Chip-Capacitors-TDK-family-108.pdf?src-supplier=Compliance+Statements; ComponentLink7Description: http://sigma.octopart.com:80/rohs_certificate/C-Series-Ceramic-Chip-Capacitors-TDK-family-108.pdf?src-supplier=Compliance+Statements
footprint CAP 2220
pins: 1, 2

## CC0603KRX7R9BB104
designator C?  value 100nF  (hidden comment: CC0603KRX7R9BB104)
Multilayer Ceramic Capacitor, CC Series, 0.1 - F, - 10%, X7R, 50 V, 0603 [1608 Metric]; Manufacturer: Yageo Group; Voltage: 50V; Supplier: Farnell; Supplier Part Number: CC0603KRX7R9BB104; Manufacturer Part Number: CC0603KRX7R9BB104; RoHS: Compliant; Category: Ceramic Capacitors; Stock: 1011406; Pricing: 10=0,0259, 100=0,0121, 500=0,0113, 1000=0,0104, 2000=0,0089, 4000=0,0073 (EUR); Case/Package: 0603; Case Code (Imperial): 0603; Case Code (Metric): 1608; China RoHS: Compliant; Country of Origin: Mainland China, Taiwan; Depth: 800µm; Dielectric: X7R; Dielectric Material: Ceramic; Export Control Classification Number (ECCN) Code: EAR99; Halogen Free: Halogen Free; Height: 800µm; Harmonized Tariff Schedule (HTS) Code: 8532.24.00.20; Introduction Date: 2005-08-18; Lead Free: Lead Free; Length: 1.6mm; Lifecycle Status: Production; Material: Ceramic; Max Operating Temperature: 125°C; Min Operating Temperature: -55°C; Mounting Technology: Surface Mount; Pins: 2; Number of Terminals: 2; Radiation Hardening: No; REACH SVHC: Yes; Schedule B: 8532240020, 8532240020|8532240020, 8532240020|8532240020|8532240020, 8532240020|8532240020|8532240020|8532240020; Termination: SMD/SMT; Thickness: 889µm; Tolerance: 10%; Voltage Rating: 50V; Voltage Rating (DC): 50V; Width: 800µm; ComponentLink1URL: https://datasheet.octopart.com:443/CC0603KRX7R9BB104-Yageo-datasheet-177165144.pdf?src-supplier=IHS; ComponentLink1Description: https://datasheet.octopart.com:443/CC0603KRX7R9BB104-Yageo-datasheet-177165144.pdf?src-supplier=IHS; ComponentLink2URL: https://datasheet.octopart.com:443/CC0603KRX7R9BB104-Yageo-datasheet-82288757.pdf?src-supplier=Upverter; ComponentLink2Description: https://datasheet.octopart.com:443/CC0603KRX7R9BB104-Yageo-datasheet-82288757.pdf?src-supplier=Upverter; ComponentLink3URL: https://datasheet.octopart.com:443/CC0603KRX7R9BB104-Yageo-datasheet-68298032.pdf?src-supplier=Upverter; ComponentLink3Description: https://datasheet.octopart.com:443/CC0603KRX7R9BB104-Yageo-datasheet-68298032.pdf?src-supplier=Upverter; ComponentLink4URL: https://datasheet.octopart.com:443/CC0603KRX7R9BB104-Yageo-Group-datasheet-189192896.pdf?src-supplier=Future+Electronics; ComponentLink4Description: https://datasheet.octopart.com:443/CC0603KRX7R9BB104-Yageo-Group-datasheet-189192896.pdf?src-supplier=Future+Electronics; ComponentLink5URL: https://datasheet.octopart.com:443/CC0603KRX7R9BB104-Yageo-datasheet-166511530.pdf?src-supplier=Future+Electronics; ComponentLink5Description: https://datasheet.octopart.com:443/CC0603KRX7R9BB104-Yageo-datasheet-166511530.pdf?src-supplier=Future+Electronics; ComponentLink6URL: https://datasheet.octopart.com:443/CC0603KRX7R9BB104-Yageo-datasheet-137700082.pdf?src-supplier=Future+Electronics; ComponentLink6Description: https://datasheet.octopart.com:443/CC0603KRX7R9BB104-Yageo-datasheet-137700082.pdf?src-supplier=Future+Electronics; ComponentLink7URL: https://datasheet.octopart.com:443/CC0603KRX7R9BB104-Yageo-datasheet-137700084.pdf?src-supplier=Future+Electronics; ComponentLink7Description: https://datasheet.octopart.com:443/CC0603KRX7R9BB104-Yageo-datasheet-137700084.pdf?src-supplier=Future+Electronics; ComponentLink8URL: https://datasheet.octopart.com:443/CC0603KRX7R9BB104-Yageo-datasheet-27626582.pdf?src-supplier=Future+Electronics; ComponentLink8Description: https://datasheet.octopart.com:443/CC0603KRX7R9BB104-Yageo-datasheet-27626582.pdf?src-supplier=Future+Electronics; ComponentLink9URL: https://datasheet.octopart.com:443/CC0603KRX7R9BB104-Yageo-datasheet-15895757.pdf?src-supplier=Future+Electronics; ComponentLink9Description: https://datasheet.octopart.com:443/CC0603KRX7R9BB104-Yageo-datasheet-15895757.pdf?src-supplier=Future+Electronics; ComponentLink10URL: https://datasheet.octopart.com:443/CC0603KRX7R9BB104-Yageo-datasheet-8324192.pdf?src-supplier=Future+Electronics; ComponentLink10Description: https://datasheet.octopart.com:443/CC0603KRX7R9BB104-Yageo-datasheet-8324192.pdf?src-supplier=Future+Electronics; ComponentLink11URL: https://datasheet.octopart.com/CC0603KRX7R9BB104-Yageo-datasheet-10883670.pdf; ComponentLink11Description: https://datasheet.octopart.com/CC0603KRX7R9BB104-Yageo-datasheet-10883670.pdf; ComponentLink12URL: https://datasheet.octopart.com/CC0603KRX7R9BB104-Yageo-datasheet-12526321.pdf; ComponentLink12Description: https://datasheet.octopart.com/CC0603KRX7R9BB104-Yageo-datasheet-12526321.pdf; ComponentLink13URL: https://datasheet.octopart.com:443/CC0603KRX7R9BB104-Yageo-datasheet-181968726.pdf?src-supplier=Newark; ComponentLink13Description: https://datasheet.octopart.com:443/CC0603KRX7R9BB104-Yageo-datasheet-181968726.pdf?src-supplier=Newark; ComponentLink14URL: https://datasheet.octopart.com:443/CC0603KRX7R9BB104-Yageo-datasheet-499490.pdf?src-supplier=Newark; ComponentLink14Description: https://datasheet.octopart.com:443/CC0603KRX7R9BB104-Yageo-datasheet-499490.pdf?src-supplier=Newark; ComponentLink15URL: https://datasheet.octopart.com:443/CC0603KRX7R9BB104-Yageo-datasheet-62336348.pdf?src-supplier=Newark; ComponentLink15Description: https://datasheet.octopart.com:443/CC0603KRX7R9BB104-Yageo-datasheet-62336348.pdf?src-supplier=Newark; ComponentLink16URL: https://datasheet.octopart.com:443/CC0603KRX7R9BB104-Yageo-datasheet-147453679.pdf?src-supplier=Newark; ComponentLink16Description: https://datasheet.octopart.com:443/CC0603KRX7R9BB104-Yageo-datasheet-147453679.pdf?src-supplier=Newark; ComponentLink17URL: https://datasheet.octopart.com:443/CC0603KRX7R9BB104-Yageo-datasheet-151948686.pdf?src-supplier=Farnell; ComponentLink17Description: https://datasheet.octopart.com:443/CC0603KRX7R9BB104-Yageo-datasheet-151948686.pdf?src-supplier=Farnell; ComponentLink18URL: https://datasheet.octopart.com:443/CC0603KRX7R9BB104-Yageo-datasheet-500777.pdf?src-supplier=Farnell; ComponentLink18Description: https://datasheet.octopart.com:443/CC0603KRX7R9BB104-Yageo-datasheet-500777.pdf?src-supplier=Farnell; ComponentLink19URL: https://datasheet.octopart.com:443/CC0603KRX7R9BB104-Yageo-datasheet-178019014.pdf?src-supplier=Burklin+Elektronik; ComponentLink19Description: https://datasheet.octopart.com:443/CC0603KRX7R9BB104-Yageo-datasheet-178019014.pdf?src-supplier=Burklin+Elektronik; ComponentLink20URL: https://datasheet.octopart.com:443/CC0603KRX7R9BB104-Yageo-Group-datasheet-165992755.pdf?src-supplier=ODG+(Origin+Data+Global); ComponentLink20Description: https://datasheet.octopart.com:443/CC0603KRX7R9BB104-Yageo-Group-datasheet-165992755.pdf?src-supplier=ODG+(Origin+Data+Global); ComponentLink21URL: https://datasheet.octopart.com:443/CC0603KRX7R9BB104-Yageo-datasheet-140260305.pdf?src-supplier=SOS+electronic; ComponentLink21Description: https://datasheet.octopart.com:443/CC0603KRX7R9BB104-Yageo-datasheet-140260305.pdf?src-supplier=SOS+electronic; ComponentLink22URL: https://datasheet.octopart.com:443/CC0603KRX7R9BB104-Yageo-datasheet-120101875.pdf?src-supplier=Megastar; ComponentLink22Description: https://datasheet.octopart.com:443/CC0603KRX7R9BB104-Yageo-datasheet-120101875.pdf?src-supplier=Megastar; ComponentLink23URL: https://datasheet.octopart.com:443/CC0603KRX7R9BB104-Yageo-datasheet-8701427.pdf?src-supplier=element14; ComponentLink23Description: https://datasheet.octopart.com:443/CC0603KRX7R9BB104-Yageo-datasheet-8701427.pdf?src-supplier=element14; ComponentLink24URL: https://datasheet.octopart.com:443/CC0603KRX7R9BB104-Yageo-datasheet-5301394.pdf?src-supplier=element14; ComponentLink24Description: https://datasheet.octopart.com:443/CC0603KRX7R9BB104-Yageo-datasheet-5301394.pdf?src-supplier=element14; ComponentLink25URL: https://datasheet.octopart.com:443/CC0603KRX7R9BB104-Yageo-datasheet-17600895.pdf?src-supplier=TME; ComponentLink25Description: https://datasheet.octopart.com:443/CC0603KRX7R9BB104-Yageo-datasheet-17600895.pdf?src-supplier=TME; ComponentLink26URL: http://sigma.octopart.com:80/15889575/rohs_statement/Yageo-CC0603KRX7R9BB104.pdf?src-supplier=Compliance+Statements; ComponentLink26Description: http://sigma.octopart.com:80/15889575/rohs_statement/Yageo-CC0603KRX7R9BB104.pdf?src-supplier=Compliance+Statements; ComponentLink27URL: http://sigma.octopart.com:80/rohs_statement/Surface-Mount-Ceramic-Multilayer-Capacitors%3B-General-Purpose-%26-High-Capacitance-Class-2%2C-X7R-Yageo-family-124.pdf?src-supplier=Compliance+Statements; ComponentLink27Description: http://sigma.octopart.com:80/rohs_statement/Surface-Mount-Ceramic-Multilayer-Capacitors%3B-General-Purpose-%26-High-Capacitance-Class-2%2C-X7R-Yageo-family-124.pdf?src-supplier=Compliance+Statements; ComponentLink28URL: http://sigma.octopart.com:80/reach_statement/Surface-Mount-Ceramic-Multilayer-Capacitors%3B-General-Purpose-%26-High-Capacitance-Class-2%2C-X7R-Yageo-family-125.pdf?src-supplier=Compliance+Statements; ComponentLink28Description: http://sigma.octopart.com:80/reach_statement/Surface-Mount-Ceramic-Multilayer-Capacitors%3B-General-Purpose-%26-High-Capacitance-Class-2%2C-X7R-Yageo-family-125.pdf?src-supplier=Compliance+Statements; ComponentLink29URL: http://sigma.octopart.com:80/conflict_mineral_statement/Yageo-company-3.pdf?src-supplier=Compliance+Statements; ComponentLink29Description: http://sigma.octopart.com:80/conflict_mineral_statement/Yageo-company-3.pdf?src-supplier=Compliance+Statements
footprint CAP 0603
pins: 1, 2

## CC0805KKX7R9BB225
designator C?  value 2.2µF  (hidden comment: CC0805KKX7R9BB225)
50V 2.2uF X7R ±10% 0805 Multilayer Ceramic Capacitors MLCC - SMD/SMT ROHS; Manufacturer: Yageo Group; Manufacturer Package Identifier: CC0805-0.85; Supplier: Farnell; Supplier Part Number: CC0805KKX7R9BB225; Manufacturer Part Number: CC0805KKX7R9BB225; RoHS: Compliant; Category: Ceramic Capacitors; Stock: 9000; Pricing: 3000=0,0345 (EUR); Case/Package: 0805; Case Code (Imperial): 0805; Case Code (Metric): 2012; China RoHS: Compliant; Dielectric: X7R; Dielectric Material: Ceramic; Halogen Free: Halogen Free; Height: 1.25mm; Lead Free: Lead Free; Length: 2mm; Lifecycle Status: Production; Material: Ceramic; Max Operating Temperature: 125°C; Min Operating Temperature: -55°C; Mounting Technology: Surface Mount; Number of Terminals: 2; Packaging: Tape & Reel (TR); REACH SVHC: Yes; Schedule B: 8532240020, 8532240020|8532240020|8532240020|8532240020|8532240020|8532240020|8532240020|8532240020|8532240020|8532240020|8532240020|8532240020|8532240020|8532240020|8532240020|8532240020|8532240020|8532240020|8532240020|8532240020|8532240020|8532240020|8532240020|85; Termination: SMD/SMT; Thickness: 1.4478mm; Tolerance: 10%; Voltage Rating: 50V; Voltage Rating (DC): 50V; Weight: 5.499807mg; Width: 1.25mm; ComponentLink1URL: https://datasheet.octopart.com:443/CC0805KKX7R9BB225-Yageo-datasheet-177165144.pdf?src-supplier=IHS; ComponentLink1Description: https://datasheet.octopart.com:443/CC0805KKX7R9BB225-Yageo-datasheet-177165144.pdf?src-supplier=IHS; ComponentLink2URL: https://datasheet.octopart.com:443/CC0805KKX7R9BB225-Yageo-datasheet-78855689.pdf?src-supplier=Upverter; ComponentLink2Description: https://datasheet.octopart.com:443/CC0805KKX7R9BB225-Yageo-datasheet-78855689.pdf?src-supplier=Upverter; ComponentLink3URL: https://datasheet.octopart.com:443/CC0805KKX7R9BB225-Yageo-Group-datasheet-189192896.pdf?src-supplier=TME; ComponentLink3Description: https://datasheet.octopart.com:443/CC0805KKX7R9BB225-Yageo-Group-datasheet-189192896.pdf?src-supplier=TME; ComponentLink4URL: https://datasheet.octopart.com:443/CC0805KKX7R9BB225-Yageo-datasheet-147453679.pdf?src-supplier=Farnell; ComponentLink4Description: https://datasheet.octopart.com:443/CC0805KKX7R9BB225-Yageo-datasheet-147453679.pdf?src-supplier=Farnell; ComponentLink5URL: https://datasheet.octopart.com:443/CC0805KKX7R9BB225-Yageo-datasheet-182029924.pdf?src-supplier=Farnell; ComponentLink5Description: https://datasheet.octopart.com:443/CC0805KKX7R9BB225-Yageo-datasheet-182029924.pdf?src-supplier=Farnell; ComponentLink6URL: https://datasheet.octopart.com:443/CC0805KKX7R9BB225-Yageo-datasheet-151948686.pdf?src-supplier=Farnell; ComponentLink6Description: https://datasheet.octopart.com:443/CC0805KKX7R9BB225-Yageo-datasheet-151948686.pdf?src-supplier=Farnell; ComponentLink7URL: https://datasheet.octopart.com:443/CC0805KKX7R9BB225-Yageo-datasheet-166511530.pdf?src-supplier=Future+Electronics; ComponentLink7Description: https://datasheet.octopart.com:443/CC0805KKX7R9BB225-Yageo-datasheet-166511530.pdf?src-supplier=Future+Electronics; ComponentLink8URL: https://datasheet.octopart.com:443/CC0805KKX7R9BB225-Yageo-datasheet-137700084.pdf?src-supplier=Future+Electronics; ComponentLink8Description: https://datasheet.octopart.com:443/CC0805KKX7R9BB225-Yageo-datasheet-137700084.pdf?src-supplier=Future+Electronics; ComponentLink9URL: https://datasheet.octopart.com:443/CC0805KKX7R9BB225-Yageo-datasheet-82288757.pdf?src-supplier=Future+Electronics; ComponentLink9Description: https://datasheet.octopart.com:443/CC0805KKX7R9BB225-Yageo-datasheet-82288757.pdf?src-supplier=Future+Electronics; ComponentLink10URL: https://datasheet.octopart.com:443/CC0805KKX7R9BB225-Yageo-datasheet-78855685.pdf?src-supplier=Future+Electronics; ComponentLink10Description: https://datasheet.octopart.com:443/CC0805KKX7R9BB225-Yageo-datasheet-78855685.pdf?src-supplier=Future+Electronics; ComponentLink11URL: https://datasheet.octopart.com:443/CC0805KKX7R9BB225-Yageo-datasheet-62336348.pdf?src-supplier=Future+Electronics; ComponentLink11Description: https://datasheet.octopart.com:443/CC0805KKX7R9BB225-Yageo-datasheet-62336348.pdf?src-supplier=Future+Electronics; ComponentLink12URL: https://datasheet.octopart.com:443/CC0805KKX7R9BB225-Yageo-datasheet-68298032.pdf?src-supplier=Future+Electronics; ComponentLink12Description: https://datasheet.octopart.com:443/CC0805KKX7R9BB225-Yageo-datasheet-68298032.pdf?src-supplier=Future+Electronics; ComponentLink13URL: https://datasheet.octopart.com:443/CC0805KKX7R9BB225-Yageo-Group-datasheet-165992755.pdf?src-supplier=ODG+(Origin+Data+Global); ComponentLink13Description: https://datasheet.octopart.com:443/CC0805KKX7R9BB225-Yageo-Group-datasheet-165992755.pdf?src-supplier=ODG+(Origin+Data+Global); ComponentLink14URL: https://datasheet.octopart.com/CC0805KKX7R9BB225-Yageo-datasheet-10883670.pdf; ComponentLink14Description: https://datasheet.octopart.com/CC0805KKX7R9BB225-Yageo-datasheet-10883670.pdf; ComponentLink15URL: http://sigma.octopart.com:80/conflict_mineral_statement/Yageo-company-3.pdf?src-supplier=Compliance+Statements; ComponentLink15Description: http://sigma.octopart.com:80/conflict_mineral_statement/Yageo-company-3.pdf?src-supplier=Compliance+Statements; ComponentLink16URL: http://sigma.octopart.com:80/rohs_statement/Yageo-company-2.pdf?src-supplier=Compliance+Statements; ComponentLink16Description: http://sigma.octopart.com:80/rohs_statement/Yageo-company-2.pdf?src-supplier=Compliance+Statements
footprint CAP 0805
pins: 1, 2